# Altium schematic symbol library KMR621NGLFS.SchLib: 1 symbol
Pins are listed as number, name and electrical type; pins without a type are passive.

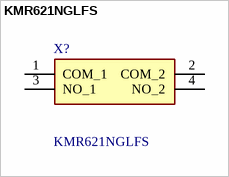
[diagram p0: symbol KMR621NGLFS]

## KMR621NGLFS
designator X?
Tactile Switches 50mA 32VDC 1.9mmH 2N IP67; Manufacturer_Name: C & K COMPONENTS; Geometry.Height: 1.9mm; Manufacturer_Part_Number: KMR621NGLFS; Mouser Part Number: 611-KMR621NGLFS; Mouser Price/Stock: https://www.mouser.co.uk/ProductDetail/CK/KMR621NGLFS?qs=HXFqYaX1Q2yW62rsqjQaoA%3D%3D; Arrow Part Number: *; Arrow Price/Stock: *; Datasheet Link: https://www.ckswitches.com/media/1907/kmr6.pdf
footprint KMR621NGLFS
pins: 1 COM_1, 2 COM_2, 3 NO_1, 4 NO_2